# Altium footprint library ad.PcbLib: 129 footprints (part 12 of 12)
Each footprint in its own frame and in the unit in brackets; x right, y up, seen from the top. Pads: shape width x height; smd on the part's side, far side on the other; paste and mask are expansions set on the pad; w line width, h text height; cw(c..) or ccw(c..) is an arc to the next point about the centre after c.
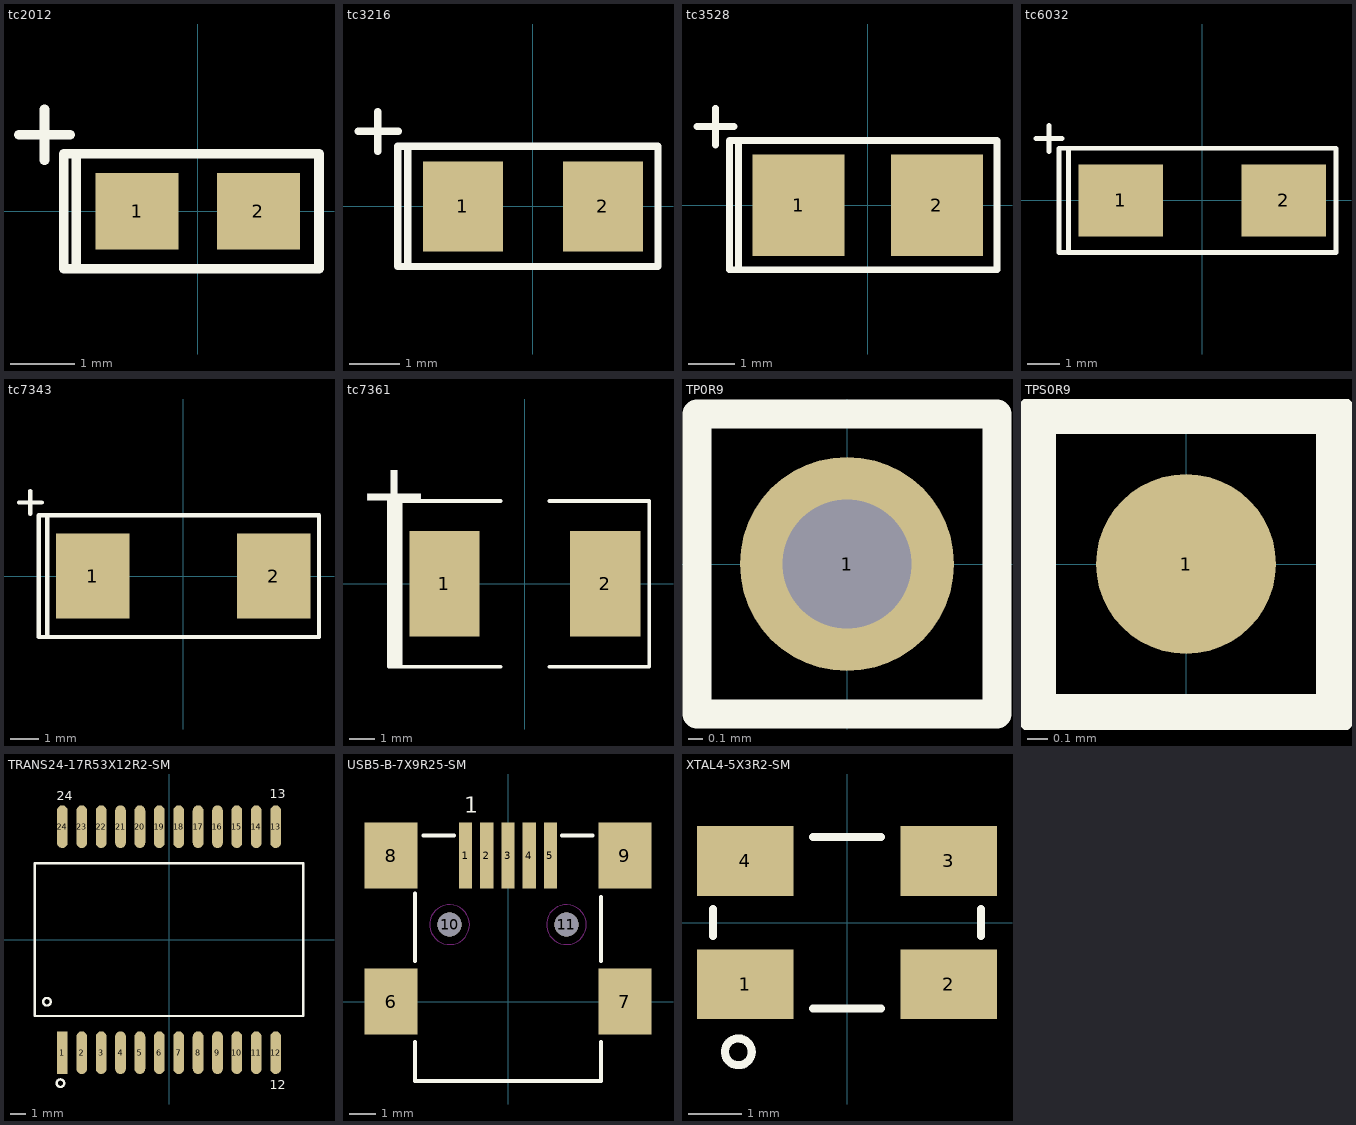
[diagram p11: the footprints below, top view; thin cyan lines are the x and y axes]

## tc2012 [mm]
pads (2):
  rect 1.3x1.2 smd: 1(-0.95,0) 2(0.95,0)
Top Overlay:
  lines w0.15: -2.8,1.2 -2,1.2 ; -2.4,0.8 -2.4,1.6 ; -1.9,-0.9 -2.1,-0.9 -2.1,0.9 -1.9,0.9 ; -1.9,-0.9 1.9,-0.9 1.9,0.9 -1.9,0.9 ; -1.9,-0.9 -1.9,0.9

## tc3216 [mm]
pads (2):
  rect 1.6x1.8 smd: 1(-1.4,0) 2(1.4,0)
Top Overlay:
  lines w0.15: -3.5,1.5 -2.7,1.5 ; -3.1,1.1 -3.1,1.9 ; -2.5,-1.2 1.2,-1.2 2.5,-1.2 2.5,1.2 -1.1,1.2 -2.5,1.2 ; -2.5,-1.2 -2.5,1.2 ; -2.5,-1.2 -2.7,-1.2 -2.7,1.2 -2.5,1.2

## tc3528 [mm]
pads (2):
  rect 2x2.2 smd: 1(-1.5,0) 2(1.5,0)
Top Overlay:
  lines w0.15: -3.7,1.7 -2.9,1.7 ; -3.3,1.3 -3.3,2.1 ; -2.8,-1.4 -3,-1.4 -3,1.4 -2.8,1.4 ; -2.8,-1.4 -2.8,1.4 ; -2.8,-1.4 2.8,-1.4 2.8,1.4 -2.8,1.4

## tc6032 [mm]
pads (2):
  rect 2.6x2.2 smd: 1(-2.5,0) 2(2.5,0)
Top Overlay:
  lines w0.15: -5.1,1.9 -4.3,1.9 ; -4.7,1.5 -4.7,2.3 ; -4,-1.6 -4.1,-1.6 ; -4.1,-1.6 4.1,-1.6 4.1,1.6 -4.1,1.6 ; -4.1,-1.6 -4.1,1.6 ; -4.1,-1.6 -4.4,-1.6 -4.4,1.6 -4.1,1.6

## tc7343 [mm]
pads (2):
  rect 2.6x3 smd: 1(-3.2,0) 2(3.2,0)
Top Overlay:
  lines w0.15: -5.8,2.6 -5,2.6 ; -5.4,2.2 -5.4,3 ; -4.8,-2.15 -4.8,2.15 ; -4.8,-2.15 -4.1,-2.15 4.8,-2.15 4.8,2.15 -4.8,2.15 ; -4.8,-2.15 -5.1,-2.15 -5.1,2.15 -4.8,2.15

## tc7361 [mm]
pads (2):
  rect 2.8x4.2 smd: 1(-3.2,0) 2(3.2,0)
Top Overlay:
  lines w0.15: -5.41,-3.3 -5.41,3.3 -4.95,3.3 ; -5.35,-3.3 -4.95,-3.3 ; -5.26,-3.26 -5.26,3.28 ; -5.13,-3.3 -5.13,3.24 ; -5.07,-3.28 -5.07,3.26 ; -5.01,-3.26 -5.01,3.28 ; -0.97,-3.3 -4.95,-3.3 ; -0.97,3.3 -4.95,3.3 ; 0.97,-3.3 4.95,-3.3 4.95,3.3 0.97,3.3 ; -4.95,-3.3 -4.95,3.3
  text "+" at -6.64,2.38 h2.5

## TP0R9 [mm]
pads (1):
  round 1.5 hole 0.9: 1(0,0)
Top Overlay:
  lines w0.2: -1.05,-1.05 1.05,-1.05 1.05,1.05 -1.05,1.05 -1.05,-1.05

## TPS0R9 [mm]
pads (1):
  round 0.9 smd: 1(0,0)
Top Overlay:
  lines w0.2: -0.75,-0.75 0.75,-0.75 0.75,0.75 -0.75,0.75 -0.75,-0.75

## TRANS24-17R53X12R2-SM [mm]
pads (24):
  rect 0.7x2.8 smd: 1(-6.985,-7.4)
  oval 0.7x2.8 smd: 2(-5.715,-7.4) 3(-4.445,-7.4) 4(-3.175,-7.4) 5(-1.905,-7.4) 6(-0.635,-7.4) 7(0.635,-7.4) 8(1.905,-7.4) 9(3.175,-7.4) 10(4.445,-7.4) 11(5.715,-7.4) 12(6.985,-7.4) 13(6.985,7.4) 14(5.715,7.4) 15(4.445,7.4) 16(3.175,7.4) 17(1.905,7.4) 18(0.635,7.4) 19(-0.635,7.4) 20(-1.905,7.4) 21(-3.175,7.4) 22(-4.445,7.4) 23(-5.715,7.4) 24(-6.985,7.4)
Top Overlay:
  circle w0.15: c-7.997,-4.064 r0.25
  circle w0.15: c-7.112,-9.398 r0.25
  lines w0.15: -8.8,-5 -8.8,5 8.8,5 8.8,-5 -8.8,-5
  text "12" at 6.604,-9.779 h0.6
  text "13" at 6.604,9.271 h0.6
  text "24" at -7.366,9.144 h0.6

## USB5-B-7X9R25-SM [mm]
pads (11):
  rect 0.5x2.5 smd: 1(-1.6,5.5) 2(-0.8,5.5) 3(0,5.5) 4(0.8,5.5) 5(1.6,5.5)
  rect 2x2.5 smd: 6(-4.4,0) 7(4.4,0) 8(-4.4,5.5) 9(4.4,5.5)
  round 0.9 hole 0.9 unplated: 10(-2.2,2.9) 11(2.2,2.9)
Top Overlay:
  lines w0.15: -3.5,-1.524 -3.5,-3 3.5,-3 3.5,-1.524 ; -3.5,1.524 -3.5,4.064 ; -3.175,6.25 -2.032,6.25 ; 2.032,6.25 3.175,6.25 ; 3.5,1.524 3.5,3.937
  text "1" at -1.651,7.112 h0.6
Keep-Out Layer:
  circle w0: c-2.2,2.9 r0.75
  circle w0: c2.2,2.9 r0.75

## XTAL4-5X3R2-SM [mm]
pads (4):
  rect 1.8x1.3 smd: 1(-1.9,-1.15) 2(1.9,-1.15) 3(1.9,1.15) 4(-1.9,1.15)
Top Overlay:
  circle w0.15: c-2.028,-2.413 r0.25
  lines w0.15: -2.5,-0.25 -2.5,0.25 ; -0.635,-1.6 0.635,-1.6 ; -0.635,1.6 0.635,1.6 ; 2.5,-0.25 2.5,0.25